# EAGLE library part HEDS1000 (library opto-transmittter-hp)
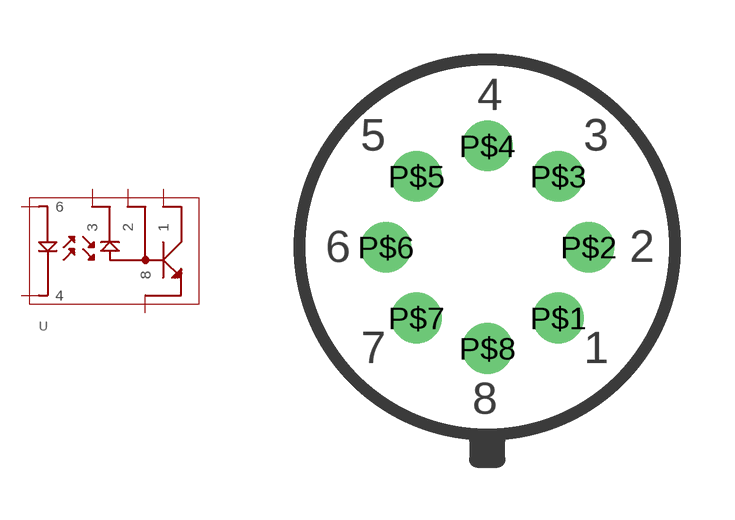
[diagram p2: symbol with the pads of HEDS1000; footprint HEDS1000]

Designator prefix -

## HEDS1000  [HEDS1000]
P$1  1
P$2  2
P$3  3
P$4  4
P$6  6
P$8  8

## Footprint HEDS1000 (pad centres in mm)
drill 0.5 pad 1.27 round: P$1 1.778,-1.778; P$2 2.54,0; P$3 1.778,1.778; P$4 0,2.54; P$5 -1.778,1.778; P$6 -2.54,0; P$7 -1.778,-1.778; P$8 0,-2.54